# Altium integrated library heron-general.IntLib: 41 symbols
Pins are listed as number, name and electrical type; pins without a type are passive.

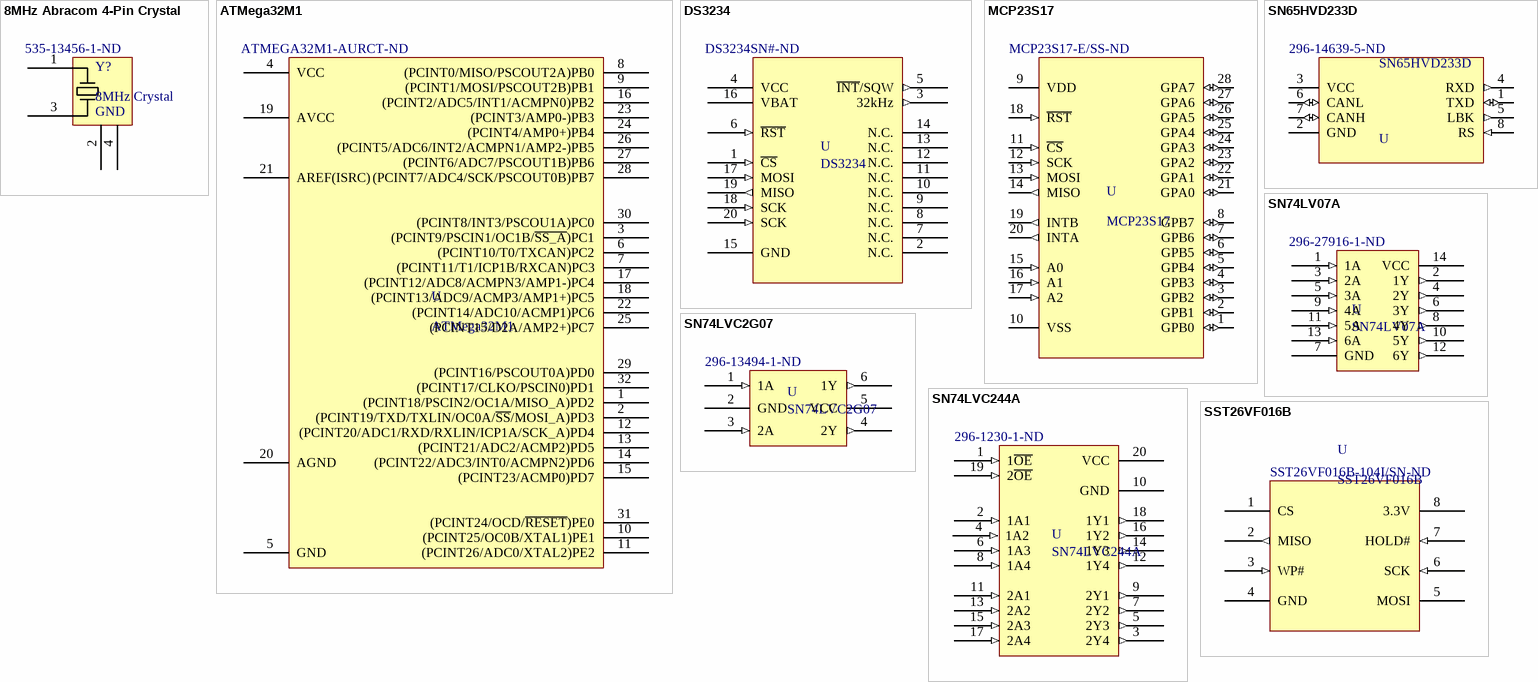
[diagram p0: symbols 8MHz Abracom 4-Pin Crystal to SST26VF016B]

## 8MHz Abracom 4-Pin Crystal
designator Y?, comment 8MHz Crystal  Supplier Part Number 1: 535-13456-1-ND
8MHz Abracom 4-pin crystal.; Supplier 1: Digi-Key
footprint OSCSC500X320X110-4N
pins: 1 IN, 2 5, 3 IN, 4
text: GND

## ATMega32M1
designator U  Supplier Part Number 1: ATMEGA32M1-AURCT-ND
Atmel 8-bit AVR microcontroller.; Supplier 1: Digi-Key
footprint QFP80P900X900X120-32N
pins: 1 (PCINT18/PSCIN2/OC1A/MISO_A)PD2, 2 (PCINT19/TXD/TXLIN/OC0A/~{SS}/MOSI_A)PD3, 3 (PCINT9/PSCIN1/OC1B/~{SS_A})PC1, 4 VCC, 5 GND, 6 (PCINT10/T0/TXCAN)PC2, 7 (PCINT11/T1/ICP1B/RXCAN)PC3, 8 (PCINT0/MISO/PSCOUT2A)PB0, 9 (PCINT1/MOSI/PSCOUT2B)PB1, 10 (PCINT25/OC0B/XTAL1)PE1, 11 (PCINT26/ADC0/XTAL2)PE2, 12 (PCINT20/ADC1/RXD/RXLIN/ICP1A/SCK_A)PD4, 13 (PCINT21/ADC2/ACMP2)PD5, 14 (PCINT22/ADC3/INT0/ACMPN2)PD6, 15 (PCINT23/ACMP0)PD7, 16 (PCINT2/ADC5/INT1/ACMPN0)PB2, 17 (PCINT12/ADC8/ACMPN3/AMP1-)PC4, 18 (PCINT13/ADC9/ACMP3/AMP1+)PC5, 19 AVCC, 20 AGND, 21 AREF(ISRC), 22 (PCINT14/ADC10/ACMP1)PC6, 23 (PCINT3/AMP0-)PB3, 24 (PCINT4/AMP0+)PB4, 25 (PCINT15/D2A/AMP2+)PC7, 26 (PCINT5/ADC6/INT2/ACMPN1/AMP2-)PB5, 27 (PCINT6/ADC7/PSCOUT1B)PB6, 28 (PCINT7/ADC4/SCK/PSCOUT0B)PB7, 29 (PCINT16/PSCOUT0A)PD0, 30 (PCINT8/INT3/PSCOU1A)PC0, 31 (PCINT24/OCD/~{RESET})PE0, 32 (PCINT17/CLKO/PSCIN0)PD1

## DS3234
designator U  Supplier Part Number 1: DS3234SN#-ND
SPI bus RTC with integrated crystal and SRAM; Supplier 1: Digi-Key
footprint SOIC127P1032X265-20N
pins: 1 ~{CS} (in), 2 N.C., 3 32kHz (out), 4 VCC (power), 5 ~{INT}/SQW (out), 6 ~{RST} (in), 7 N.C., 8 N.C., 9 N.C., 10 N.C., 11 N.C., 12 N.C., 13 N.C., 14 N.C., 15 GND (power), 16 VBAT (power), 17 MOSI (in), 18 SCK (in), 19 MISO (out), 20 SCK (in)

## MCP23S17
designator U  Supplier Part Number 1: MCP23S17-E/SS-ND
16 bit I/O expander with SPI interface.; Supplier 1: Digi-Key
footprint SOP65P780X200-28N
pins: 1 GPB0 (io), 2 GPB1 (io), 3 GPB2 (io), 4 GPB3 (io), 5 GPB4 (io), 6 GPB5 (io), 7 GPB6 (io), 8 GPB7 (io), 9 VDD (power), 10 VSS (power), 11 ~{CS} (in), 12 SCK (in), 13 MOSI (in), 14 MISO (out), 15 A0 (in), 16 A1 (in), 17 A2 (in), 18 ~{RST} (in), 19 INTB (out), 20 INTA (out), 21 GPA0 (io), 22 GPA1 (io), 23 GPA2 (io), 24 GPA3 (io), 25 GPA4 (io), 26 GPA5 (io), 27 GPA6 (io), 28 GPA7 (io)

## SN65HVD233D
designator U  Supplier Part Number 1: 296-14639-5-ND
3.3V CAN Transceiver with Standby Mode, Loop-back 8-SOIC -40 to 125; MF: Texas Instruments; MP: SN65HVD233D; Package: SOIC-8 Texas Instruments; Availability: Good; SnapEDA_Link: https://www.snapeda.com/parts/SN65HVD233D/Texas%20Instruments/view-part/?ref=snap; Price: 2.39 USD; Value: *; Supplier 1: Digi-Key
footprint SOIC8
footprint SOIC127P500X600-8N
pins: 1 TXD (io), 2 GND (power), 3 VCC (power), 4 RXD (out), 5 LBK (out), 6 CANL (io), 7 CANH (io), 8 RS (in)

## SN74LV07A
designator U  Supplier Part Number: 296-27916-1-ND
Six element 1-bit non-inverting open-drain buffer.; Supplier: Digi-Key
footprint SOP65P640X120-14N
pins: 1 1A (in), 2 1Y (out), 3 2A (in), 4 2Y (out), 5 3A (in), 6 3Y (out), 7 GND (power), 8 4Y (out), 9 4A (in), 10 5Y (out), 11 5A (in), 12 6Y (out), 13 6A (in), 14 VCC (power)

## SN74LVC2G07
designator U  Supplier Part Number 1: 296-13494-1-ND
Dual Non-Inverting Buffer; Supplier 1: Digi-Key
footprint SOT95P280X145-6N
pins: 1 1A (in), 2 GND (power), 3 2A (in), 4 2Y (out), 5 VCC (power), 6 1Y (out)

## SN74LVC244A
designator U  Supplier Part Number 1: 296-1230-1-ND
Octal buffer or driver with 3-state outputs.; Supplier 1: Digi-Key
footprint SOP65P650X440-20N
pins: 1 1~{OE} (in), 2 1A1 (in), 3 2Y4 (out), 4 1A2 (in), 5 2Y3 (out), 6 1A3 (in), 7 2Y2 (out), 8 1A4 (in), 9 2Y1 (out), 10 GND (power), 11 2A1 (in), 12 1Y4 (out), 13 2A2 (in), 14 1Y3 (out), 15 2A3 (in), 16 1Y2 (out), 17 2A4 (in), 18 1Y1 (out), 19 2~{OE} (in), 20 VCC (power)

## SST26VF016B
designator U  Supplier Part Number 1: SST26VF016B-104I/SN-ND
2.5V/3.0V 16 Mbit Serial Quad I/O (SQI) Flash Memory; ComponentLink1Description: SST25VF016B; ComponentLink1URL: https://www.digikey.ca/product-detail/en/microchip-technology/SST26VF016B-104I-SN/SST26VF016B-104I-SN-ND/5033651; Supplier 1: Digi-Key
footprint SOIC127P500X600-8N
pins: 1 CS, 2 MISO (out), 3 WP# (in), 4 GND (power), 5 MOSI, 6 SCK (in), 7 HOLD# (in), 8 3.3V (power)


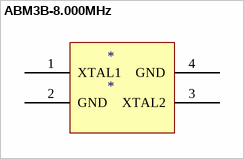
[diagram p1: symbol ABM3B-8.000MHz]

## ABM3B-8.000MHz
designator *
footprint OSCSC500X320X110-4N
pins: 1 XTAL1, 2 GND, 3 XTAL2, 4 GND


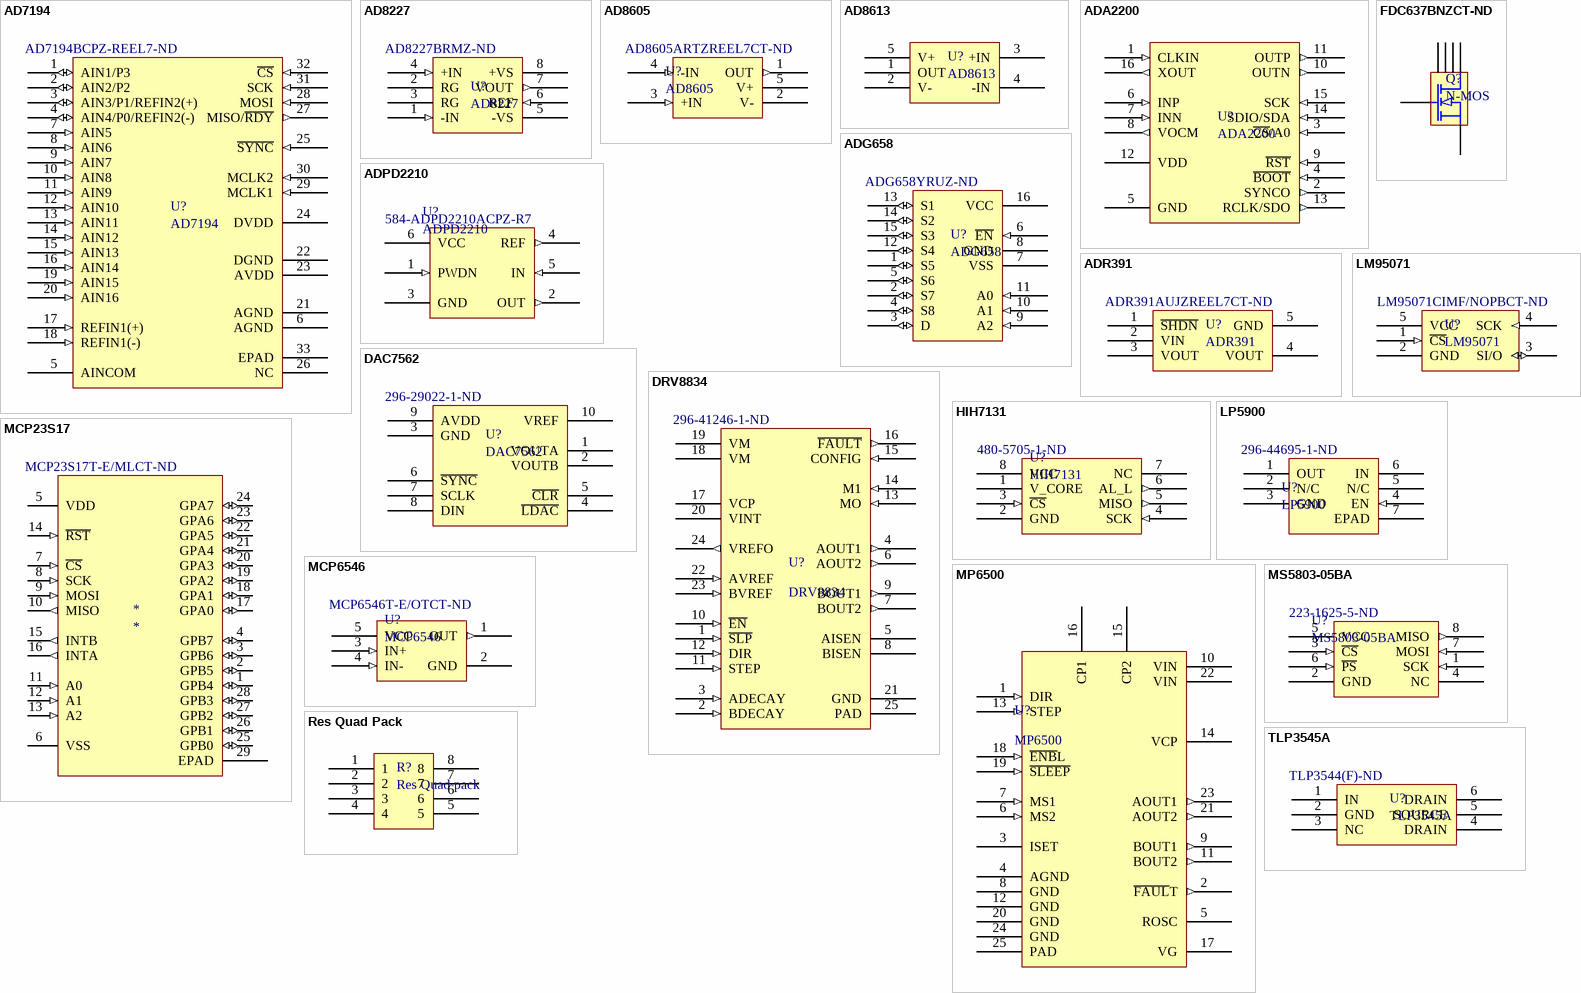
[diagram p2: symbols AD7194 to TLP3545A]

## AD7194
designator U?  Supplier Part Number 1: AD7194BCPZ-REEL7-ND
24-bit sigma-delta ADC; Supplier 1: Digi-Key
pins: 1 AIN1/P3 (io), 2 AIN2/P2 (io), 3 AIN3/P1/REFIN2(+) (io), 4 AIN4/P0/REFIN2(-) (io), 5 AINCOM (power), 6 AGND (power), 7 AIN5 (in), 8 AIN6 (in), 9 AIN7 (in), 10 AIN8 (in), 11 AIN9 (in), 12 AIN10 (in), 13 AIN11 (in), 14 AIN12 (in), 15 AIN13 (in), 16 AIN14 (in), 17 REFIN1(+) (in), 18 REFIN1(-) (in), 19 AIN15 (in), 20 AIN16 (in), 21 AGND (power), 22 DGND (power), 23 AVDD (power), 24 DVDD (power), 25 ~{SYNC} (in), 26 NC, 27 MISO/~{RDY} (out), 28 MOSI (in), 29 MCLK1 (in), 30 MCLK2 (in), 31 SCK (in), 32 ~{CS} (in), 33 EPAD

## AD8227
designator U?  Supplier Part Number 1: AD8227BRMZ-ND
Rail-to-rail instrumentation amplifier. Can operate on single supply.; Supplier 1: Digi-Key
footprint SOP8-65P300X300-8N
pins: 1 -IN (in), 2 RG, 3 RG, 4 +IN (in), 5 -VS (power), 6 REF (in), 7 VOUT (out), 8 +VS (power)

## AD8605
designator U?  Supplier Part Number 1: AD8605ARTZREEL7CT-ND
Low noise, precision rail-to-rail op-amp.; Supplier 1: Digi-Key
footprint SOT-23-5_95P290X160-5N
pins: 1 OUT (out), 2 V- (power), 3 +IN (in), 4 -IN (in), 5 V+ (power)

## AD8613
designator U?
Low power, low noise rail-to-rail op-amp.
footprint SOP-65P200X125-5N
pins: 1 OUT, 2 V-, 3 +IN, 4 -IN, 5 V+

## ADA2200
designator U?
Synchronous demodulator and configurable analog filter.
footprint SSOP16_N (Footprint not found)
pins: 1 CLKIN (in), 2 SYNCO (out), 3 ~{CS}/A0 (in), 4 ~{BOOT} (in), 5 GND (power), 6 INP (in), 7 INN (in), 8 VOCM (out), 9 ~{RST} (in), 10 OUTN (out), 11 OUTP (out), 12 VDD (power), 13 RCLK/SDO (out), 14 SDIO/SDA (in), 15 SCK (in), 16 XOUT (out)

## ADG658
designator U?  Supplier Part Number 1: ADG658YRUZ-ND
Eight channel analog multiplexer.; Supplier 1: Digi-Key
footprint SSOP16_N (Footprint not found)
pins: 1 S5 (io), 2 S7 (io), 3 D (io), 4 S8 (io), 5 S6 (io), 6 ~{EN} (in), 7 VSS (power), 8 GND (power), 9 A2 (in), 10 A1 (in), 11 A0 (in), 12 S4 (io), 13 S1 (io), 14 S2 (io), 15 S3 (io), 16 VCC (power)

## ADPD2210
designator U?  Supplier Part Number 1: 584-ADPD2210ACPZ-R7
Ultralow noise current amplifier for photodiodes.; Supplier 1: Mouser
footprint LFCSP_UD65P200X200-6N (Footprint for ADPD2210 current amplifier)
pins: 1 PWDN (in), 2 OUT (out), 3 GND (power), 4 REF (out), 5 IN (in), 6 VCC (power)

## ADR391
designator U?  Supplier Part Number 1: ADR391AUJZREEL7CT-ND
2.5V reference voltage.; Supplier 1: Digi-Key
footprint SOT-23-5_95P290X160-5N
pins: 1 ~{SHDN}, 2 VIN, 3 VOUT, 4 VOUT, 5 GND

## DAC7562
designator U?  Supplier Part Number 1: 296-29022-1-ND
12-bit, low-power, voltage-output DAC with internal reference.; Supplier 1: Digi-Key
footprint SOP10-50P300X300-10N
pins: 1 VOUTA, 2 VOUTB, 3 GND, 4 ~{LDAC}, 5 ~{CLR}, 6 ~{SYNC}, 7 SCLK, 8 DIN, 9 AVDD, 10 VREF

## DRV8834
designator U?  Supplier Part Number 1: 296-41246-1-ND
Dual-bridge stepper or dc motor driver. 1.5A per coil with 2.5-10.8 V load supply.; Supplier 1: Digi-Key
footprint SOP65P640X120-25N
pins: 1 ~{SLP} (in), 2 BDECAY (in), 3 ADECAY (in), 4 AOUT1 (out), 5 AISEN, 6 AOUT2 (out), 7 BOUT2 (out), 8 BISEN, 9 BOUT1 (out), 10 ~{EN} (in), 11 STEP (in), 12 DIR (in), 13 MO (in), 14 M1 (in), 15 CONFIG (in), 16 ~{FAULT} (out), 17 VCP (power), 18 VM (power), 19 VM (power), 20 VINT (power), 21 GND (power), 22 AVREF (in), 23 BVREF (in), 24 VREFO (out), 25 PAD (power)

## FDC637BNZCT-ND
designator Q?, comment N-MOS
N-MOS, low gate ON voltage; Supplier: Digi-Key; Supplier Part Number: FDC637BNZCT-ND
footprint SOT23-6_N (Footprint not found)
pins: 1 D, 2 D, 3 G, 4 S, 5 D, 6 D

## HIH7131
designator U?  Supplier Part Number 1: 480-5705-1-ND
Digital humidity/temperature sensors. +/- 3% RH, 0-100%, SPI output. Model version with filter and condensation resistant.; Supplier 1: Digi-Key
footprint SOIC127P500X600-8N
pins: 1 V_CORE (power), 2 GND (power), 3 ~{CS} (in), 4 SCK (in), 5 MISO (out), 6 AL_L (out), 7 NC, 8 VCC (power)

## LM95071
designator U?  Supplier Part Number 1: LM95071CIMF/NOPBCT-ND
13 bit plus sign digital temperature sensor. Nominal +/- 1 C accuracy from 0-70 C.; Supplier 1: Digi-Key
footprint SOT-23-5_95P290X160-5N
pins: 1 ~{CS} (in), 2 GND (power), 3 SI/O (io), 4 SCK (in), 5 VCC (power)

## LP5900
designator U?  Supplier Part Number 1: 296-44695-1-ND
Low noise 3V low dropout regulator for analog and RF applications.; Supplier 1: Digi-Key
footprint DFN220X250X80-7N
pins: 1 OUT (power), 2 N/C, 3 GND (power), 4 EN (in), 5 N/C, 6 IN (power), 7 EPAD

## MCP23S17
designator *  Supplier Part Number 1: MCP23S17T-E/MLCT-ND
16-bit I/O expander.; Supplier 1: Digi-Key
footprint QFN65P600X600X100-29N
pins: 1 GPB4 (io), 2 GPB5 (io), 3 GPB6 (io), 4 GPB7 (io), 5 VDD (power), 6 VSS (power), 7 ~{CS} (in), 8 SCK (in), 9 MOSI (in), 10 MISO (out), 11 A0 (in), 12 A1 (in), 13 A2 (in), 14 ~{RST} (in), 15 INTB (out), 16 INTA (out), 17 GPA0 (io), 18 GPA1 (io), 19 GPA2 (io), 20 GPA3 (io), 21 GPA4 (io), 22 GPA5 (io), 23 GPA6 (io), 24 GPA7 (io), 25 GPB0 (io), 26 GPB1 (io), 27 GPB2 (io), 28 GPB3 (io), 29 EPAD

## MCP6546
designator U?  Supplier Part Number 1: MCP6546T-E/OTCT-ND
Open-drain output sub-microamp comparator.; Supplier 1: Digi-Key
footprint SOT-23-5_95P290X160-5N
pins: 1 OUT (out), 2 GND (power), 3 IN+ (in), 4 IN- (in), 5 VCC (power)

## MP6500
designator U?
35V 2.5A stepper motor driver.
pins: 1 DIR (in), 2 ~{FAUL}T (out), 3 ISET, 4 AGND (power), 5 ROSC, 6 MS2 (in), 7 MS1 (in), 8 GND (power), 9 BOUT1 (out), 10 VIN (power), 11 BOUT2 (out), 12 GND (power), 13 STEP (in), 14 VCP (power), 15 CP2, 16 CP1, 17 VG (power), 18 ~{ENB}L (in), 19 ~{SLEEP} (in), 20 GND (power), 21 AOUT2 (out), 22 VIN (power), 23 AOUT1 (out), 24 GND (power), 25 PAD

## MS5803-05BA
designator U?  Supplier Part Number 1: 223-1625-5-ND
Digital 24-bit pressure sensor with SPI output. Operating range from 0-5bar, includes onboard temperature sensor and hermetic seal.; Supplier 1: Digi-Key
footprint MS5803-05BA_125P640x620-8N (Footprint for the MS5803-05BA pressure sensor)
pins: 1 SCK (in), 2 GND (power), 3 ~{CS} (in), 4 NC, 5 VCC (power), 6 ~{PS} (in) "Active-low for SPI", 7 MOSI (in), 8 MISO (out)

## Res Quad Pack
designator R?, comment Res Quad pack
Quad pack resistor
pins: 1, 2, 3, 4, 5, 6, 7, 8

## TLP3545A
designator U?  Supplier Part Number 1: TLP3544(F)-ND
SSR Relay SPST-NO 4A 0-60V; Supplier 1: Digi-Key
footprint DIP-6 (Footprint not found)
pins: 1 IN, 2 GND, 3 NC, 4 DRAIN, 5 SOURCE, 6 DRAIN


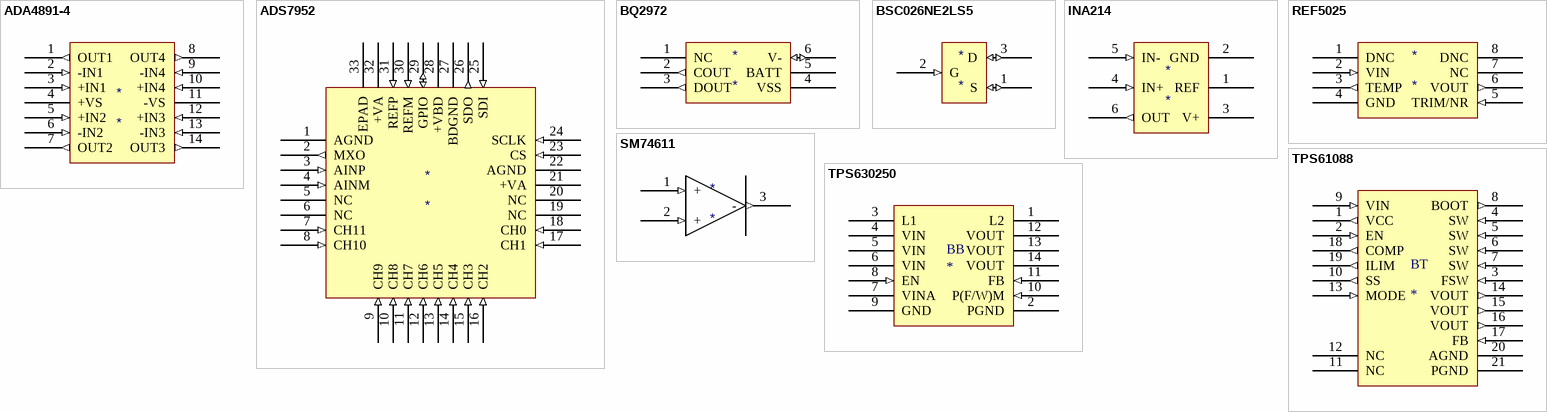
[diagram p3: symbols ADA4891-4 to TPS630250]

## ADA4891-4
designator *
Op-amps
footprint Model Name (Footprint not found)
pins: 1 OUT1 (out), 2 -IN1 (in), 3 +IN1 (in), 4 +VS (power), 5 +IN2 (in), 6 -IN2 (in), 7 OUT2 (out), 8 OUT4 (out), 9 -IN4 (in), 10 +IN4 (in), 11 -VS (power), 12 +IN3 (in), 13 -IN3 (in), 14 OUT3 (out)

## ADS7952
designator *
ADC
pins: 1 AGND (power), 2 MXO (out), 3 AINP (in), 4 AINM (in), 5 NC, 6 NC, 7 CH11 (in), 8 CH10 (in), 9 CH9 (in), 10 CH8 (in), 11 CH7 (in), 12 CH6 (in), 13 CH5 (in), 14 CH4 (in), 15 CH3 (in), 16 CH2 (in), 17 CH1 (in), 18 CH0 (in), 19 NC, 20 NC, 21 +VA (power), 22 AGND (power), 23 CS (in), 24 SCLK (in), 25 SDI (in), 26 SDO (out), 27 BDGND (power), 28 +VBD (power), 29 GPIO (io), 30 REFM (in), 31 REFP (in), 32 +VA (power), 33 EPAD

## BQ2972
designator *
Battery protection
pins: 1 NC, 2 COUT (out), 3 DOUT (out), 4 VSS (power), 5 BATT (power), 6 V- (io)

## BSC026NE2LS5
designator *
MOSFET
pins: 1 S (io), 2 G (in), 3 D (io)

## INA214
designator *
Current monitor
pins: 1 REF, 2 GND (power), 3 V+ (power), 4 IN+ (in), 5 IN- (in), 6 OUT (out)

## REF5025
designator *
Voltage Reference
pins: 1 DNC, 2 VIN (in), 3 TEMP (out), 4 GND (power), 5 TRIM/NR (in), 6 VOUT (out), 7 NC, 8 DNC

## SM74611
designator *
PV Diode
pins: 1 + (in), 2 + (in), 3 - (out)

## TPS61088
designator BT
Boost converter
footprint QFN50P450X350X100-21N (Footprint not found)
pins: 1 VCC (out) "Output of the internal regulator. A ceramic capacitor of more than 1.0 µF is required between this pin and ground.", 2 EN (in), 3 FSW (in), 4 SW (in), 5 SW (in), 6 SW (in), 7 SW (in), 8 BOOT (out), 9 VIN (in), 10 SS (out), 11 NC, 12 NC, 13 MODE (in), 14 VOUT (out), 15 VOUT (out), 16 VOUT (out), 17 FB (in), 18 COMP (out), 19 ILIM (out), 20 AGND (power), 21 PGND (power)

## TPS630250
designator BB
Buck-boost converter
pins: 1 L2 (power), 2 PGND (power), 3 L1 (power), 4 VIN (power), 5 VIN (power), 6 VIN (power), 7 VINA (power), 8 EN (in), 9 GND (power), 10 P(F/W)M (in), 11 FB (in), 12 VOUT, 13 VOUT, 14 VOUT


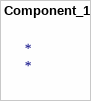
[diagram p4: symbol Component_1]

## Component_1
designator *


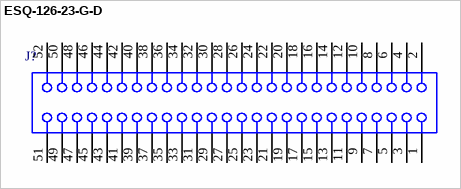
[diagram p5: symbol ESQ-126-23-G-D]

## ESQ-126-23-G-D
designator J?
PC/104(TM) Elevated Socket Strip, Through-hole, Vertical, -55 to 125 degC, 2.54 mm Pitch, 52-Pin, Female, RoHS; Manufacturer: Samtec; PartNumber: ESQ-126-23-G-D; Pitch: 2.54 mm; DatasheetVersion: F-214; PackageVersion: BZ, 9/1998; PackageReference: ESQ-126-23-X-D; PackageDescription: ESQ Strip ASM; Supplier 1: Newark; Supplier Part Number 1: 92P1348; Orientation: Vertical; RoHS: True; Temperature Range: -55 to 125 degC; Mounting Technology: Through-hole; ComponentLink1Description: Manufacturer URL; ComponentLink1URL: http://www.samtec.com; ComponentLink2Description: Datasheet; ComponentLink2URL: http://www.samtec.com/documents/webfiles/pdf/ESQ_TH.PDF; ComponentLink3Description: Package Specification; ComponentLink3URL: http://www.samtec.com/documents/webfiles/cpdf/ESQ-1XX-XX-X-X-XXX-XX-X-XX-MKT.pdf
footprint SMTC-ESQ-126-23-X-D (Elevated Socket, 2x26 Pins, Vertical, 2.54mm Pitch, Female)
pins: 1, 2, 3, 4, 5, 6, 7, 8, 9, 10, 11, 12, 13, 14, 15, 16, 17, 18, 19, 20, 21, 22, 23, 24, 25, 26, 27, 28, 29, 30, 31, 32, 33, 34, 35, 36, 37, 38, 39, 40, 41, 42, 43, 44, 45, 46, 47, 48, 49, 50, 51, 52